# EAGLE library part LTC4361 (library aoba)
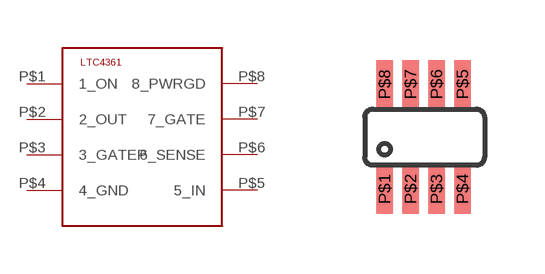
[diagram p9: symbol with the pads of LTC4361_2; footprint LTC4361_2]

Designator prefix -

## LTC4361  [LTC4361_2]
P$1  1_ON
P$2  2_OUT
P$3  3_GATEP
P$4  4_GND
P$5  5_IN
P$6  6_SENSE
P$7  7_GATE
P$8  8_PWRGD

## Footprint LTC4361_2 (pad centres in mm)
smd 0.42 x 1.22: P$1 0,0; P$2 0.65,0; P$3 1.3,0; P$4 1.95,0; P$5 1.95,2.62; P$6 1.3,2.62; P$7 0.65,2.62; P$8 0,2.62